# Altium footprint library PcbLib1.PcbLib: 3 footprints
Each footprint in its own frame and in the unit in brackets; x right, y up, seen from the top. Pads: shape width x height; smd on the part's side, far side on the other; paste and mask are expansions set on the pad; w line width, h text height; cw(c..) or ccw(c..) is an arc to the next point about the centre after c.
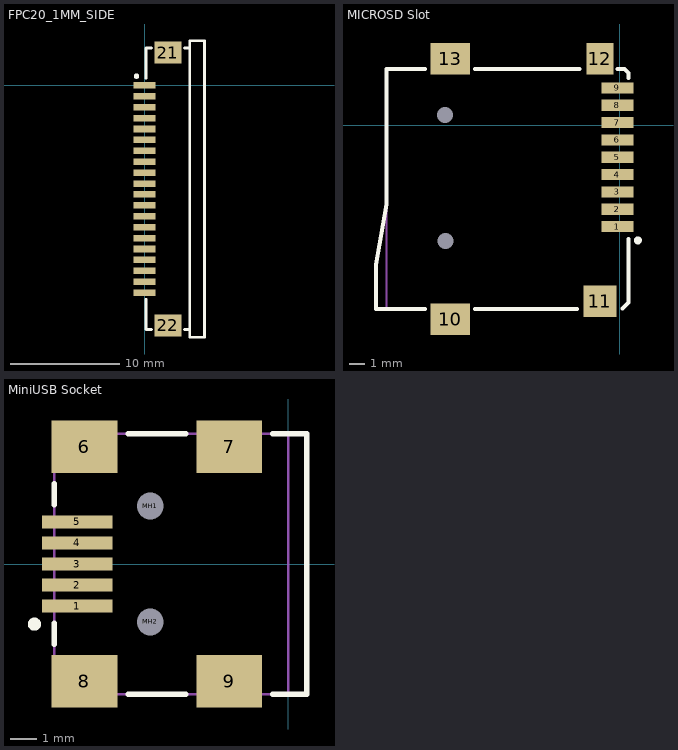
[diagram p0: the footprints below, top view; thin cyan lines are the x and y axes]

## FPC20_1MM_SIDE [mm] "FPC Socket, 1mm pitch, 20-Pin, Side Mount"
height 2.489
pads (22):
  rect 2x0.6 smd: 1(0,0) 2(0,-1) 3(0,-2) 4(0,-3) 5(0,-4) 6(0,-5) 7(0,-6) 8(0,-7) 9(0,-8) 10(0,-9) 11(0,-10) 12(0,-11) 13(0,-12) 14(0,-13) 15(0,-14) 16(0,-15) 17(0,-16) 18(0,-17) 19(0,-18) 20(0,-19)
  rect 2.5x2 smd: 21(2.15,3) 22(2.15,-22)
Top Overlay:
  circle w0.25: c-0.735,0.838 r0.125
  lines w0.254: 0.127,-19.609 0.127,-22.377 0.635,-22.377 ; 0.127,0.66 0.127,3.429 0.635,3.429 ; 3.658,-22.377 4.115,-22.377 ; 3.658,3.429 4.115,3.429 ; 4.14,-23.089 5.486,-23.089 5.486,4.089 4.14,4.089 4.14,-23.089
3D body: height 2.44, standoff 0, extent 0.127,-23.089 5.486,4.089

## MICROSD Slot [mil] "MicroSD Card Socket"
height 67
pads (15):
  rect 80x28 smd: 1(-6,-253.47) 2(-6,-210.16) 3(-6,-166.85) 4(-6,-123.55) 5(-6,-80.24) 6(-6,-36.93) 7(-6,6.38) 8(-6,49.68) 9(-6,92.99)
  rect 98.43x78.74 smd: 10(-424.01,-485) 13(-424.01,166)
  rect 83x78.74 smd: 11(-50,-439.8)
  rect 67x78.74 smd: 12(-50,166)
  round 23.62 hole 40 unplated: MH1(-436.89,25) MH2(-436,-289.96)
Top Overlay:
  circle w9.84: c45,-288 r4.92
  lines w10: -487,-459 -609,-459 -609,-347.81 -583,-198 -583,140 -487,140 ; -362,-459 -107,-459 ; -362,140 -101,140 ; -6,140 3,140 11,140 21,130 21,118 ; 6,-458 21,-443 21,-284
Mechanical 1:
  lines w3.94: -583,-459 -583,140.88
  text "PCB Edge" at -576,-375 h9.84
3D body: height 67, standoff 0, extent -611,-460 21,140

## MiniUSB Socket [mm] "Connector; USB2.0, Type B, SM; 5 Position; Right Angle"
height 3.9
pads (11):
  rect 2.667x0.5 smd: 1(-8.026,-1.6) 2(-8.026,-0.8) 3(-8.026,0) 4(-8.026,0.8) 5(-8.026,1.6)
  rect 2.5x2 smd: 6(-7.75,4.45) 7(-2.25,4.45) 8(-7.75,-4.45) 9(-2.25,-4.45)
  round 0.6 hole 1.016 unplated: MH1(-5.25,2.2) MH2(-5.25,-2.2)
Top Overlay:
  circle w0.25: c-9.652,-2.286 r0.125
  lines w0.2: -8.9,-3.05 -8.9,-2.25 ; -8.9,2.25 -8.9,3.05 ; -6.1,-4.95 -3.9,-4.95 ; -6.1,4.95 -3.9,4.95 ; -0.6,-4.95 0.7,-4.95 0.7,4.95 -0.6,4.95
Mechanical 1:
  lines w0.1: 0,-4.95 0,4.95
  text "PCB Edge" at 0.432,-4.036 h0.25
Mechanical 13:
  lines w0.1: -8.9,-4.95 -8.9,4.95 0.7,4.95 0.7,-4.95 -8.9,-4.95
3D body: height 3.9, standoff 0, extent -8.9,-4.95 0.7,4.95